# Altium footprint library Header.PcbLib: 41 footprints (part 3 of 3)
Each footprint in its own frame and in the unit in brackets; x right, y up, seen from the top. Pads: shape width x height; smd on the part's side, far side on the other; paste and mask are expansions set on the pad; w line width, h text height; cw(c..) or ccw(c..) is an arc to the next point about the centre after c.
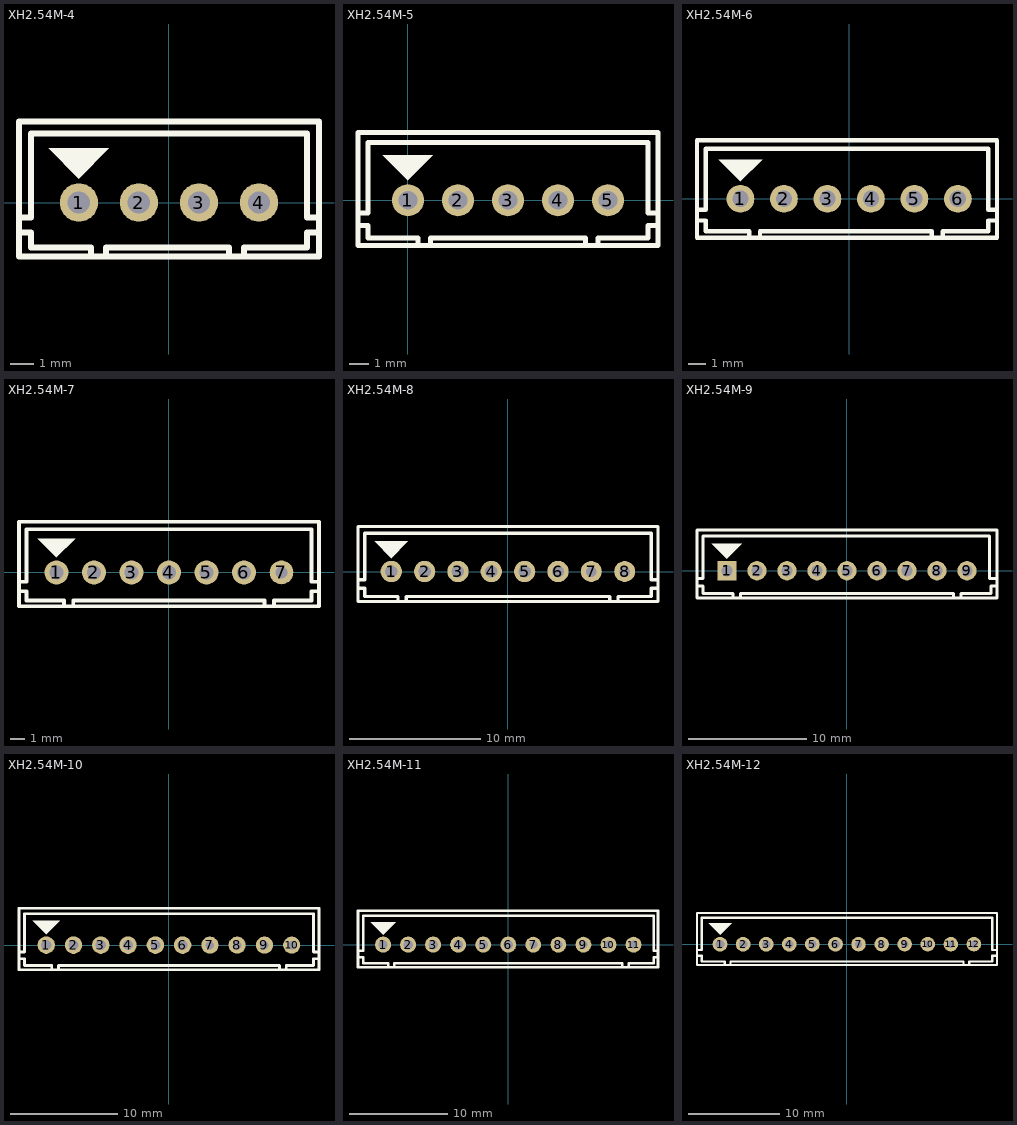
[diagram p2: the footprints below, top view; thin cyan lines are the x and y axes]

## XH2.54M-4 [mm]
pads (4):
  round 1.626 hole 0.95: 1(-3.81,0) 2(-1.27,0) 3(1.27,0) 4(3.81,0)
Top Overlay:
  region: -5.08,2.286 -2.54,2.286 -3.81,1.016
  lines w0.254: -6.348,-1.27 -5.84,-1.27 -5.84,-1.905 -3.3,-1.905 -3.3,-2.286 ; -6.348,-0.635 -5.84,-0.635 -5.84,2.921 5.842,2.921 5.842,-0.635 6.223,-0.635 ; -2.667,-2.286 -2.667,-1.905 2.54,-1.905 2.54,-2.286 ; 3.178,-2.286 3.178,-1.905 5.842,-1.905 5.842,-1.27 6.35,-1.27 ; -6.348,-2.286 6.35,-2.286 6.35,3.429 -6.348,3.429 -6.348,-2.286
3D body "XH2.54M-4.STEP": height 6.91, standoff -1.82, extent -6.29,-2.311 6.29,3.429

## XH2.54M-5 [mm]
pads (5):
  round 1.626 hole 0.95: 1(0,0) 2(2.54,0) 3(5.08,0) 4(7.62,0) 5(10.16,0)
Top Overlay:
  region: -1.27,2.286 1.27,2.286 0,1.016
  lines w0.254: -2.538,-1.27 -2.03,-1.27 -2.03,-1.905 0.51,-1.905 0.51,-2.286 ; -2.538,-0.635 -2.03,-0.635 -2.03,2.921 12.192,2.921 12.192,-0.635 12.7,-0.635 ; 1.143,-2.286 1.143,-1.905 9.017,-1.905 9.017,-2.286 ; 9.652,-2.286 9.652,-1.905 12.192,-1.905 12.192,-1.27 12.7,-1.27 ; -2.538,-2.286 -2.538,3.429 12.7,3.429 12.7,-2.286 -2.538,-2.286
3D body "XH2.54M-5.STEP": height 7.1, standoff -1.63, extent -2.48,-2.26 12.64,3.48

## XH2.54M-6 [mm]
pads (6):
  round 1.626 hole 0.95: 1(-6.35,0) 2(-3.81,0) 3(-1.27,0) 4(1.27,0) 5(3.81,0) 6(6.35,0)
Top Overlay:
  region: -7.62,2.286 -5.08,2.286 -6.35,1.016
  lines w0.254: -8.888,-1.27 -8.38,-1.27 -8.38,-1.905 -5.84,-1.905 -5.84,-2.286 ; -8.888,-0.635 -8.38,-0.635 -8.38,2.921 8.128,2.921 8.128,-0.635 8.636,-0.635 ; -5.207,-2.286 -5.207,-1.905 4.826,-1.905 4.826,-2.286 ; 5.461,-2.286 5.461,-1.905 8.128,-1.905 8.128,-1.27 8.636,-1.27 ; -8.888,-2.286 -8.888,3.429 8.636,3.429 8.636,-2.286 -8.888,-2.286
3D body "XH2.54M-6.STEP": height 6.91, standoff -1.82, extent -8.957,-2.311 8.703,3.429

## XH2.54M-7 [mm]
pads (7):
  round 1.626 hole 0.95: 1(-7.62,0) 2(-5.08,0) 3(-2.54,0) 4(0,0) 5(2.54,0) 6(5.08,0)
  round 1.6 hole 0.8: 7(7.62,0)
Top Overlay:
  region: -8.89,2.286 -6.35,2.286 -7.62,1.016
  lines w0.254: -10.158,-1.27 -9.65,-1.27 -9.65,-1.905 -7.11,-1.905 -7.11,-2.286 ; -10.158,-0.635 -9.65,-0.635 -9.65,2.921 9.652,2.921 9.652,-0.635 10.16,-0.635 ; -6.477,-2.286 -6.477,-1.905 6.477,-1.905 6.477,-2.286 ; 7.112,-2.286 7.112,-1.905 9.652,-1.905 9.652,-1.27 10.16,-1.27 ; -10.158,-2.286 10.16,-2.286 10.16,3.429 -10.158,3.429 -10.158,-2.286
3D body "XH2.54M-7.STEP": height 7.1, standoff -1.63, extent -10.1,-2.26 10.1,3.48

## XH2.54M-8 [mm]
pads (8):
  round 1.626 hole 0.95: 1(-8.89,0) 2(-6.35,0) 3(-3.81,0) 4(-1.27,0) 5(1.27,0) 6(3.81,0)
  round 1.6 hole 0.8: 7(6.35,0) 8(8.89,0)
Top Overlay:
  region: -10.16,2.286 -7.62,2.286 -8.89,1.016
  lines w0.254: -11.428,-1.27 -10.92,-1.27 -10.92,-1.905 -8.38,-1.905 -8.38,-2.286 ; -11.428,-0.635 -10.92,-0.635 -10.92,2.921 10.922,2.921 10.922,-0.635 11.43,-0.635 ; -7.747,-2.286 -7.747,-1.905 7.747,-1.905 7.747,-2.286 ; 8.382,-2.286 8.382,-1.905 10.922,-1.905 10.922,-1.27 11.43,-1.27 ; -11.428,-2.286 11.43,-2.286 11.43,3.429 -11.428,3.429 -11.428,-2.286
3D body "XH2.54M-8.STEP": height 7.1, standoff -1.63, extent -11.37,-2.26 11.37,3.48

## XH2.54M-9 [mm]
pads (9):
  rect 1.626x1.626 hole 0.95: 1(-10.16,0)
  round 1.626 hole 0.95: 2(-7.62,0) 3(-5.08,0) 4(-2.54,0) 5(0,0) 6(2.54,0) 7(5.08,0) 8(7.62,0) 9(10.16,0)
Top Overlay:
  region: -11.43,2.286 -8.89,2.286 -10.16,1.016
  lines w0.254: -12.698,-1.27 -12.19,-1.27 -12.19,-1.905 -9.65,-1.905 -9.65,-2.286 ; -12.698,-0.635 -12.19,-0.635 -12.19,2.921 12.063,2.921 12.063,-0.635 12.571,-0.635 ; -9.017,-2.286 -9.017,-1.905 9.017,-1.905 9.017,-2.286 ; 9.65,-2.286 9.65,-1.905 12.19,-1.905 12.19,-1.27 12.698,-1.27 ; -12.698,-2.286 -12.698,3.429 12.7,3.429 12.7,-2.286 -12.698,-2.286
3D body "XH2.54M-9.STEP": height 6.91, standoff -1.82, extent -12.64,-2.26 12.64,3.48

## XH2.54M-10 [mm]
pads (10):
  round 1.626 hole 0.95: 1(-11.43,0) 2(-8.89,0) 3(-6.35,0) 4(-3.81,0) 5(-1.27,0) 6(1.27,0)
  round 1.6 hole 0.8: 7(3.81,0) 8(6.35,0) 9(8.89,0) 10(11.43,0)
Top Overlay:
  region: -12.7,2.286 -10.16,2.286 -11.43,1.016
  lines w0.254: -13.968,-1.27 -13.46,-1.27 -13.46,-1.905 -10.92,-1.905 -10.92,-2.286 ; -13.968,-0.635 -13.46,-0.635 -13.46,2.921 13.462,2.921 13.462,-0.635 13.97,-0.635 ; -10.287,-2.286 -10.287,-1.905 10.287,-1.905 10.287,-2.286 ; 10.922,-2.286 10.922,-1.905 13.462,-1.905 13.462,-1.27 13.97,-1.27 ; -13.968,-2.286 13.97,-2.286 13.97,3.429 -13.968,3.429 -13.968,-2.286
3D body "XH2.54M-10.STEP": height 7.1, standoff -1.63, extent -13.91,-2.26 13.91,3.48

## XH2.54M-11 [mm]
pads (11):
  round 1.626 hole 0.95: 1(-12.7,0) 2(-10.16,0) 3(-7.62,0) 4(-5.08,0) 5(-2.54,0) 6(0,0)
  round 1.6 hole 0.8: 7(2.54,0) 8(5.08,0) 9(7.62,0) 10(10.16,0) 11(12.7,0)
Top Overlay:
  region: -13.97,2.286 -11.43,2.286 -12.7,1.016
  lines w0.254: -15.238,-1.27 -14.73,-1.27 -14.73,-1.905 -12.19,-1.905 -12.19,-2.286 ; -15.238,-0.635 -14.73,-0.635 -14.73,2.921 14.732,2.921 14.732,-0.635 15.113,-0.635 ; -11.557,-2.286 -11.557,-1.905 11.557,-1.905 11.557,-2.286 ; 12.192,-2.286 12.192,-1.905 14.732,-1.905 14.732,-1.27 15.113,-1.27 ; -15.238,-2.286 -15.238,3.429 15.18,3.429 15.18,-2.286 -15.238,-2.286
3D body "XH2.54M-11.STEP": height 6.91, standoff -1.82, extent -15.18,-2.26 15.18,3.48

## XH2.54M-12 [mm]
pads (12):
  round 1.626 hole 0.95: 1(-13.97,0) 2(-11.43,0) 3(-8.89,0) 4(-6.35,0) 5(-3.81,0) 6(-1.27,0)
  round 1.6 hole 0.8: 7(1.27,0) 8(3.81,0) 9(6.35,0) 10(8.89,0) 11(11.43,0) 12(13.97,0)
Top Overlay:
  region: -15.24,2.286 -12.7,2.286 -13.97,1.016
  lines w0.254: -16.508,-1.27 -16,-1.27 -16,-1.905 -13.46,-1.905 -13.46,-2.286 ; -16.508,-0.635 -16,-0.635 -16,2.921 16.002,2.921 16.002,-0.635 16.383,-0.635 ; -12.827,-2.286 -12.827,-1.905 12.827,-1.905 12.827,-2.286 ; 13.462,-2.286 13.462,-1.905 16.002,-1.905 16.002,-1.27 16.51,-1.27 ; -16.508,-2.286 16.51,-2.286 16.51,3.429 -16.508,3.429 -16.508,-2.286
3D body "XH2.54M-12.STEP": height 6.91, standoff -1.82, extent -16.45,-2.26 16.45,3.48